# Altium footprint library CG590LS.PcbLib: 1 footprints
Each footprint in its own frame and in the unit in brackets; x right, y up, seen from the top. Pads: shape width x height; smd on the part's side, far side on the other; paste and mask are expansions set on the pad; w line width, h text height; cw(c..) or ccw(c..) is an arc to the next point about the centre after c.
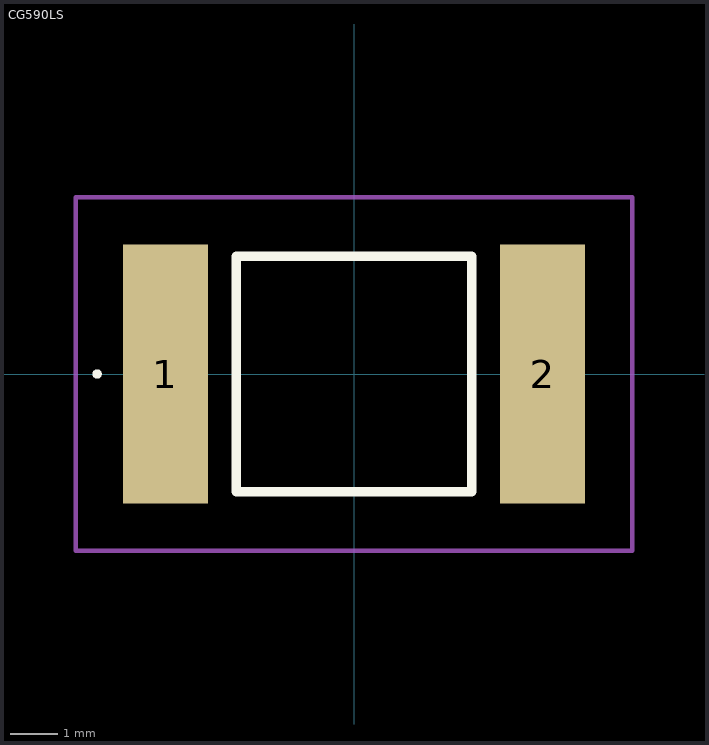
[diagram p0: the footprint, top view; thin cyan lines are the x and y axes]

## CG590LS [mm]
pads (2):
  rect 1.8x5.5 smd: 1(-4,0) 2(4,0)
Top Overlay:
  lines w0.1: -5.5,0 cw(c-5.45,0) -5.4,0 cw(c-5.45,0) -5.5,0
  lines w0.2: -2.5,-2.5 2.5,-2.5 2.5,2.5 -2.5,2.5 -2.5,-2.5
Mechanical 13:
  lines w0.1: -2.5,-2.5 2.5,-2.5 2.5,2.5 -2.5,2.5 -2.5,-2.5
Mechanical 15:
  lines w0.1: -5.9,-3.75 5.9,-3.75 5.9,3.75 -5.9,3.75 -5.9,-3.75
3D body "CG590LSTR.stp": height 5.19, standoff 0, extent -4.65,-2.5 4.65,2.527